# Altium schematic symbol library AD9959BCPZ.SchLib: 1 symbol
Pins are listed as number, name and electrical type; pins without a type are passive.

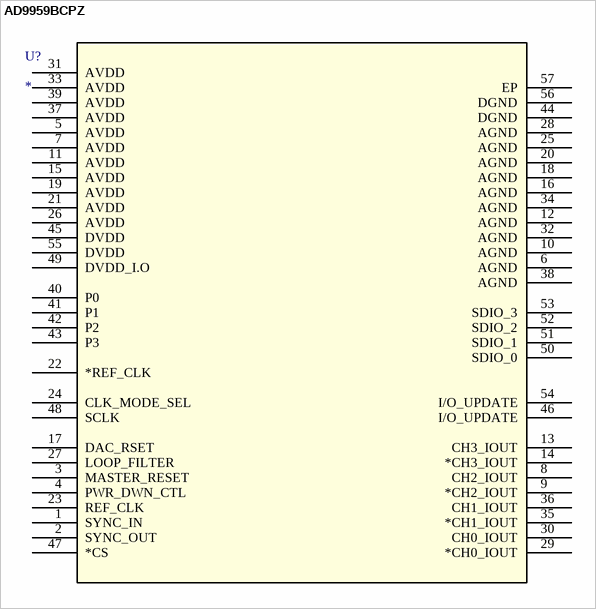
[diagram p0: symbol AD9959BCPZ]

## AD9959BCPZ
designator U?
4-Channel, 500 MSPS DDS with 10-Bit DACs; RefDes: RefDes; Type: DEV; Value: Value
footprint CP_56_1
pins: 1 SYNC_IN, 2 SYNC_OUT, 3 MASTER_RESET, 4 PWR_DWN_CTL, 5 AVDD, 6 AGND, 7 AVDD, 8 CH2_IOUT, 9 *CH2_IOUT, 10 AGND, 11 AVDD, 12 AGND, 13 CH3_IOUT, 14 *CH3_IOUT, 15 AVDD, 16 AGND, 17 DAC_RSET, 18 AGND, 19 AVDD, 20 AGND, 21 AVDD, 22 *REF_CLK, 23 REF_CLK, 24 CLK_MODE_SEL, 25 AGND, 26 AVDD, 27 LOOP_FILTER, 28 AGND, 29 *CH0_IOUT, 30 CH0_IOUT, 31 AVDD, 32 AGND, 33 AVDD, 34 AGND, 35 *CH1_IOUT, 36 CH1_IOUT, 37 AVDD, 38 AGND, 39 AVDD, 40 P0, 41 P1, 42 P2, 43 P3, 44 DGND, 45 DVDD, 46 I/O_UPDATE, 47 *CS, 48 SCLK, 49 DVDD_I.O, 50 SDIO_0, 51 SDIO_1, 52 SDIO_2, 53 SDIO_3, 54 I/O_UPDATE, 55 DVDD, 56 DGND, 57 EP